# EAGLE library part 91601-310ALF (library con-amphenol-icc-custom)
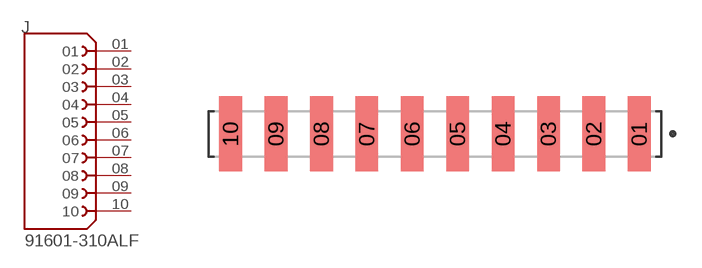
[diagram p0: symbol with the pads of AMPHENOL_91601-310ALF; footprint AMPHENOL_91601-310ALF]

Designator prefix J

## 91601-310ALF (MANUFACTURER: Amphenol; PARTREV: AJ; STANDARD: Manufacturer Recommendations)  [AMPHENOL_91601-310ALF]
01  01  pas
02  02  pas
03  03  pas
04  04  pas
05  05  pas
06  06  pas
07  07  pas
08  08  pas
09  09  pas
10  10  pas

## Footprint AMPHENOL_91601-310ALF (pad centres in mm)
smd 1.27 x 4.2: 01 11.43,0; 02 8.89,0; 03 6.35,0; 04 3.81,0; 05 1.27,0; 06 -1.27,0; 07 -3.81,0; 08 -6.35,0; 09 -8.89,0; 10 -11.43,0